# EAGLE library part ADS1115 (library misc)
The ADS1113, ADS1114, and ADS1115 devices (ADS111x) are precision, low-power, 16-bit, I 2Ccompatible, analog-to-digital converters (ADCs) offered in an ultra-small, leadless, X2QFN-10 package, and a VSSOP-10 package. The ADS111x devices incorporate a low-drift voltage reference and an oscillator. The ADS1114 and ADS1115 also incorporate a programmable gain amplifier (PGA) and a digital comparator. These features, along with a wide operating supply range, make the ADS111x well suited for power- and space-constrained, sensor measurement applications. The ADS111x perform conversions at data rates up to 860 samples per second (SPS). The PGA offers input ranges from ±256 mV to ±6.144 V, allowing precise large- and small-signal measurements. The ADS1115 features an input multiplexer (MUX) that allows two differential or four single-ended input measurements. Use the digital comparator in the ADS1114 and ADS1115 for under- and overvoltage detection
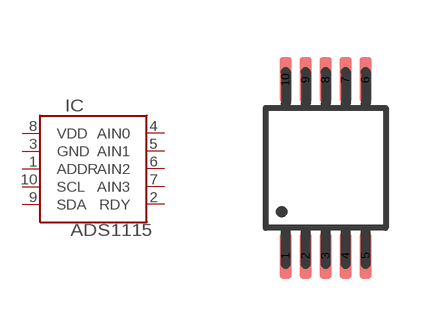
[diagram p0: symbol with the pads of VSSOP10; footprint VSSOP10]

Designator prefix IC

## ADS1115  [VSSOP10]
1  ADDR  in
2  RDY  out
3  GND  pwr
4  AIN0  in
5  AIN1  in
6  AIN2  in
7  AIN3  in
8  VDD  pwr
9  SDA
10  SCL  in

## Footprint VSSOP10 (pad centres in mm)
smd 0.3 x 1.14: 1 -1,-2.2; 2 -0.5,-2.2; 3 0,-2.2; 4 0.5,-2.2; 5 1,-2.2; 6 1,2.2; 7 0.5,2.2; 8 0,2.2; 9 -0.5,2.2; 10 -1,2.2